# Altium schematic symbol library 5-1746530-4.SchLib: 1 symbol
Pins are listed as number, name and electrical type; pins without a type are passive.

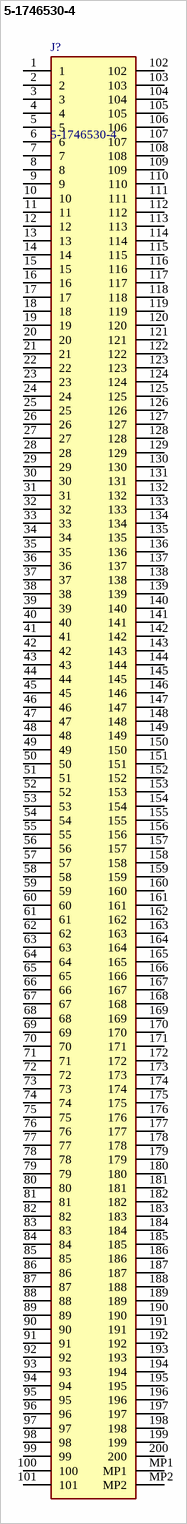
[diagram p0: symbol 5-1746530-4]

## 5-1746530-4
designator J?
Body Features: Ejector Location Both Ends | Latch Material Stainless Steel | Connector Profile Standard | Latch Plating Material Tin | Module Key Type SGRAM | Ejector Type Locking | Configuration Features: Number of Keys 1 | Number of Bays 2 | Number of Rows 2 | Module Orientation Right Angle | Number of Positions 200 | Contact Features: Memory Socket Type Memory Card | Contact Current Rating (Max) .5 AMP | Contact Base Material Copper Alloy | Contact Mating Area Plating Material Gold Flash | PCB Contact Te; Manufacturer_Name: TE Connectivity; Geometry.Height: 6.5mm; Manufacturer_Part_Number: 5-1746530-4; Mouser Part Number: 571-5-1746530-4; Mouser Price/Stock: https://www.mouser.co.uk/ProductDetail/TE-Connectivity/5-1746530-4?qs=ZjKkSzBea3O3sfDEJqHfXQ%3D%3D; Arrow Part Number: 5-1746530-4; Arrow Price/Stock: https://www.arrow.com/en/products/5-1746530-4/te-connectivity?region=nac; Datasheet Link: https://componentsearchengine.com/Datasheets/1/5-1746530-4.pdf
footprint 517465304
pins: 1, 2, 3, 4, 5, 6, 7, 8, 9, 10, 11, 12, 13, 14, 15, 16, 17, 18, 19, 20, 21, 22, 23, 24, 25, 26, 27, 28, 29, 30, 31, 32, 33, 34, 35, 36, 37, 38, 39, 40, 41, 42, 43, 44, 45, 46, 47, 48, 49, 50, 51, 52, 53, 54, 55, 56, 57, 58, 59, 60, 61, 62, 63, 64, 65, 66, 67, 68, 69, 70, 71, 72, 73, 74, 75, 76, 77, 78, 79, 80, 81, 82, 83, 84, 85, 86, 87, 88, 89, 90, 91, 92, 93, 94, 95, 96, 97, 98, 99, 100, 101, 102, 103, 104, 105, 106, 107, 108, 109, 110, 111, 112, 113, 114, 115, 116, 117, 118, 119, 120, 121, 122, 123, 124, 125, 126, 127, 128, 129, 130, 131, 132, 133, 134, 135, 136, 137, 138, 139, 140, 141, 142, 143, 144, 145, 146, 147, 148, 149, 150, 151, 152, 153, 154, 155, 156, 157, 158, 159, 160, 161, 162, 163, 164, 165, 166, 167, 168, 169, 170, 171, 172, 173, 174, 175, 176, 177, 178, 179, 180, 181, 182, 183, 184, 185, 186, 187, 188, 189, 190, 191, 192, 193, 194, 195, 196, 197, 198, 199, 200, MP1, MP2